# EAGLE library part WDMX_TINY_DEV (library Blizzard_Library)
W-DMX Tiny Module
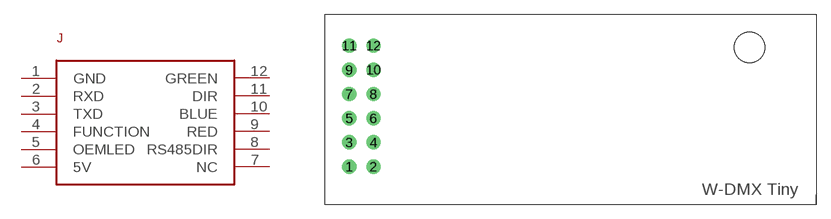
[diagram p23: symbol with the pads of WDMX_TINY_PKG; footprint WDMX_TINY_PKG]

Designator prefix J

## WDMX_TINY_DEV (PN: W-DMX Tiny)  [WDMX_TINY_PKG]
1  GND
2  RXD
3  TXD
4  FUNCTION
5  OEMLED
6  5V
7  NC
8  RS485DIR
9  RED
10  BLUE
11  DIR
12  GREEN

## Footprint WDMX_TINY_PKG (pad centres in mm)
drill 1: 1 0,0; 2 2.54,0; 3 0,2.54; 4 2.54,2.54; 5 0,5.08; 6 2.54,5.08; 7 0,7.62; 8 2.54,7.62; 9 0,10.16; 10 2.54,10.16; 11 0,12.7; 12 2.54,12.7
hole 3.2 at 42,12.5